# EAGLE library part LIS302DL (library T-Stick)
Ultra compact high performance e-compass, 3D accelerometer module Source: https://media.digikey.com/pdf/Data%20Sheets/ST%20Microelectronics%20PDFS/LIS302DL_Rev_4.pdf
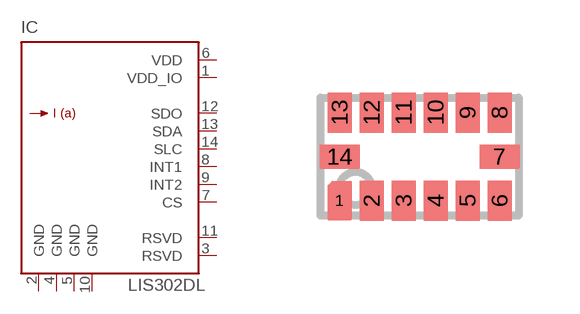
[diagram p6: symbol with the pads of LGA-14; footprint LGA-14]

Designator prefix IC

## LIS302DL  [LGA-14]
1  VDD_IO  pwr
2  GND  pwr
3  RSVD  pas
4  GND  pas
5  GND  pas
6  VDD  pwr
7  CS
8  INT1
9  INT2
10  GND  pas
11  RSVD  pas
12  SDO
13  SDA
14  SLC

## Footprint LGA-14 (pad centres in mm)
LGA 3x5x1 14L Land Grid Array Package Source: DM00027543-118326.pdf
smd 0.4 x 0.4: 1 -2,-1.1
smd 0.6 x 1: 2 -1.2,-1.1; 3 -0.4,-1.1; 4 0.4,-1.1; 5 1.2,-1.1; 6 2,-1.1; 8 2,1.1; 9 1.2,1.1; 10 0.4,1.1; 11 -0.4,1.1; 12 -1.2,1.1; 13 -2,1.1
smd 1 x 0.6: 7 2,0; 14 -2,0